# EAGLE library part JTAG- (library ti-tiva)
JTAG HEADER 10-PIN
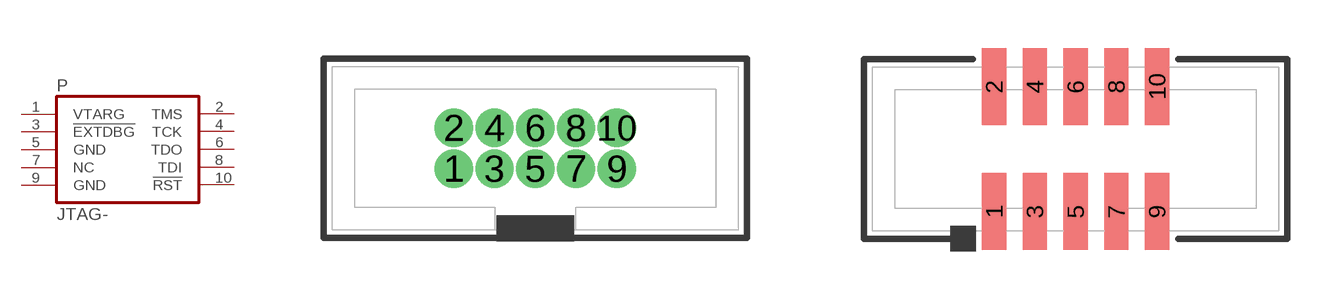
[diagram p3: symbol with the pads of 3220-10-0100-00; footprints 3220-10-0100-00, 3220-10-0300-00]

Designator prefix P

## JTAG-3220-10-0100-00  [3220-10-0100-00]
1  VTARG
2  TMS
3  !EXTDBG!
4  TCK
5  GND
6  TDO
7  NC
8  TDI
9  GND
10  !RST!

## JTAG-3220-10-0300-00  [3220-10-0300-00]
Pads as for 3220-10-0100-00

## JTAG-CON-2X5-50MIL  [CON-2X5-50MIL]
Pads as for 3220-10-0100-00

## JTAG-20021521-00010T1  [20021521-00010T1]
Pads as for 3220-10-0100-00

## Footprint 3220-10-0100-00 (pad centres in mm)
SHROUDED HEADER 10 PIN, 0.05" PITCH Source: CNC Tech
drill 0.686: 1 -2.54,-0.635; 2 -2.54,0.635; 3 -1.27,-0.635; 4 -1.27,0.635; 5 0,-0.635; 6 0,0.635; 7 1.27,-0.635; 8 1.27,0.635; 9 2.54,-0.635; 10 2.54,0.635

## Footprint 3220-10-0300-00 (pad centres in mm)
SMD SHROUDED HEADER 10 PIN, 0.05" PITCH Source: CNC Tech
smd 0.76 x 2.4: 1 -2.54,-1.95; 2 -2.54,1.95; 3 -1.27,-1.95; 4 -1.27,1.95; 5 0,-1.95; 6 0,1.95; 7 1.27,-1.95; 8 1.27,1.95; 9 2.54,-1.95; 10 2.54,1.95

## Footprint CON-2X5-50MIL (pad centres in mm)
SMD SHROUDED HEADER 10 PIN, 0.05" PITCH
smd 0.76 x 2.4: 1 -2.54,-1.95; 2 -2.54,1.95; 3 -1.27,-1.95; 4 -1.27,1.95; 5 0,-1.95; 6 0,1.95; 7 1.27,-1.95; 8 1.27,1.95; 9 2.54,-1.95; 10 2.54,1.95
hole 1 at 1.905,0
hole 1 at -1.905,0
hole 1.2 at 5.867,0
hole 1.2 at -5.867,0

## Footprint 20021521-00010T1 (pad centres in mm)
SMD SHROUDED HEADER FCI MiniTek 10-PIN, 0.05" PITCH
smd 0.76 x 2.4: 1 -2.54,-1.95; 2 -2.54,1.95; 3 -1.27,-1.95; 4 -1.27,1.95; 5 0,-1.95; 6 0,1.95; 7 1.27,-1.95; 8 1.27,1.95; 9 2.54,-1.95; 10 2.54,1.95